# EAGLE library part UG-2832HSWEG04 (library OLED)
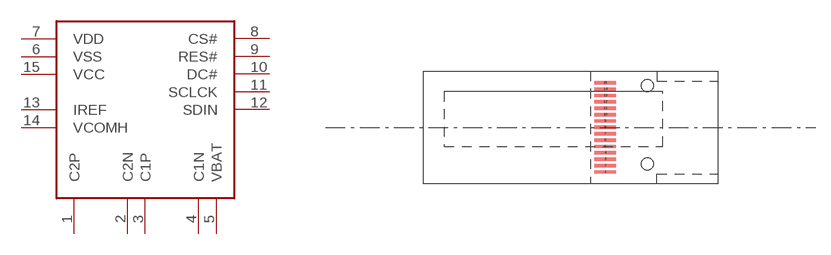
[diagram p0: symbol with the pads of UG-2832HSWEG04; footprint UG-2832HSWEG04]

Designator prefix -

## UG-2832HSWEG04  [UG-2832HSWEG04]
1  C2P
2  C2N
3  C1P
4  C1N
5  VBAT
6  VSS
7  VDD
8  CS#
9  RES#
10  DC#
11  SCLCK
12  SDIN
13  IREF
14  VCOMH
15  VCC

## Footprint UG-2832HSWEG04 (pad centres in mm)
OLED display with SSD1306 driver
smd 2.2 x 0.35: 1 1.535,-4.55; 2 1.535,-3.9; 3 1.535,-3.25; 4 1.535,-2.6; 5 1.535,-1.95; 6 1.535,-1.3; 7 1.535,-0.65; 8 1.535,0; 9 1.535,0.65; 10 1.535,1.3; 11 1.535,1.95; 12 1.535,2.6; 13 1.535,3.25; 14 1.535,3.9; 15 1.535,4.55